# Altium footprint library LT8722AVPBF.PcbLib: 1 footprints
Each footprint in its own frame and in the unit in brackets; x right, y up, seen from the top. Pads: shape width x height; smd on the part's side, far side on the other; paste and mask are expansions set on the pad; w line width, h text height; cw(c..) or ccw(c..) is an arc to the next point about the centre after c.
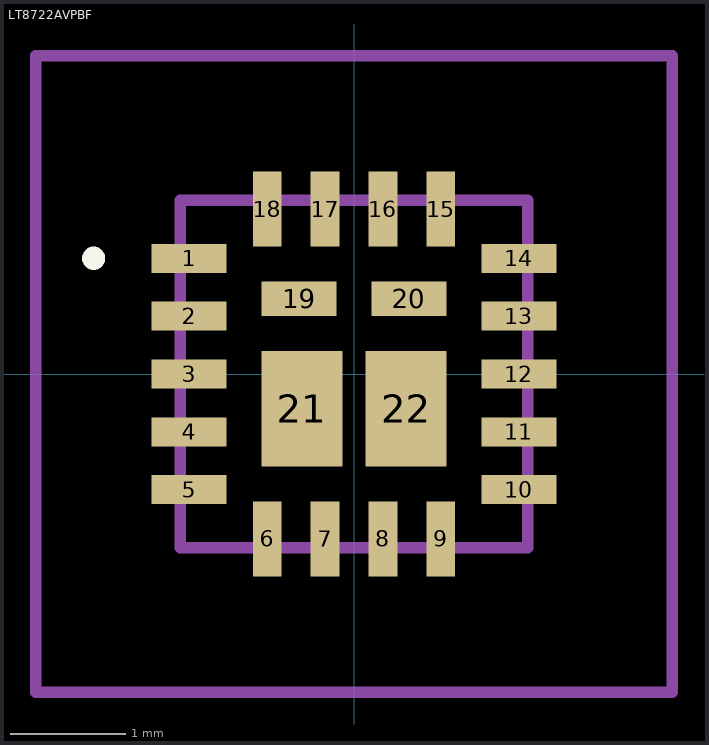
[diagram p0: the footprint, top view; thin cyan lines are the x and y axes]

## LT8722AVPBF [mm]
pads (22):
  rect 0.65x0.25 smd: 1(-1.425,1) 2(-1.425,0.5) 3(-1.425,0) 4(-1.425,-0.5) 5(-1.425,-1) 10(1.425,-1) 11(1.425,-0.5) 12(1.425,0) 13(1.425,0.5) 14(1.425,1)
  rect 0.25x0.65 smd: 6(-0.75,-1.425) 7(-0.25,-1.425) 8(0.25,-1.425) 9(0.75,-1.425) 15(0.75,1.425) 16(0.25,1.425) 17(-0.25,1.425) 18(-0.75,1.425)
  rect 0.65x0.3 smd: 19(-0.475,0.65) 20(0.475,0.65)
  rect 0.7x1 smd: 21(-0.45,-0.3) 22(0.45,-0.3)
Top Overlay:
  lines w0.1: -2.3,1 cw(c-2.25,1) -2.2,1 ; -2.3,1 -2.3,1 ; -2.3,1 ccw(c-2.25,1) -2.2,1 ; -2.2,1 -2.2,1
Mechanical 15:
  lines w0.1: -1.5,-1.5 1.5,-1.5 1.5,1.5 -1.5,1.5 -1.5,-1.5
Mechanical 20:
  lines w0.1: -2.75,-2.75 2.75,-2.75 2.75,2.75 -2.75,2.75 -2.75,-2.75